# EAGLE library part LM75 (library pimoroni-ics)
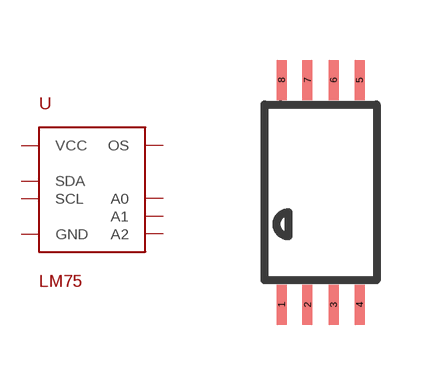
[diagram p52: symbol with the pads of TSSOP-8; footprint TSSOP-8]

Designator prefix -

## LM75  [TSSOP-8]
1  SDA
2  SCL
3  OS
4  GND
5  A2
6  A1
7  A0
8  VCC

## Footprint TSSOP-8 (pad centres in mm)
smd 0.25 x 1: 1 -0.975,-2.813; 2 -0.325,-2.813; 3 0.325,-2.813; 4 0.975,-2.813; 5 0.975,2.813; 6 0.325,2.813; 7 -0.325,2.813; 8 -0.975,2.813